# EAGLE library part RPIHEADER (library rpibout)
PIN HEADER
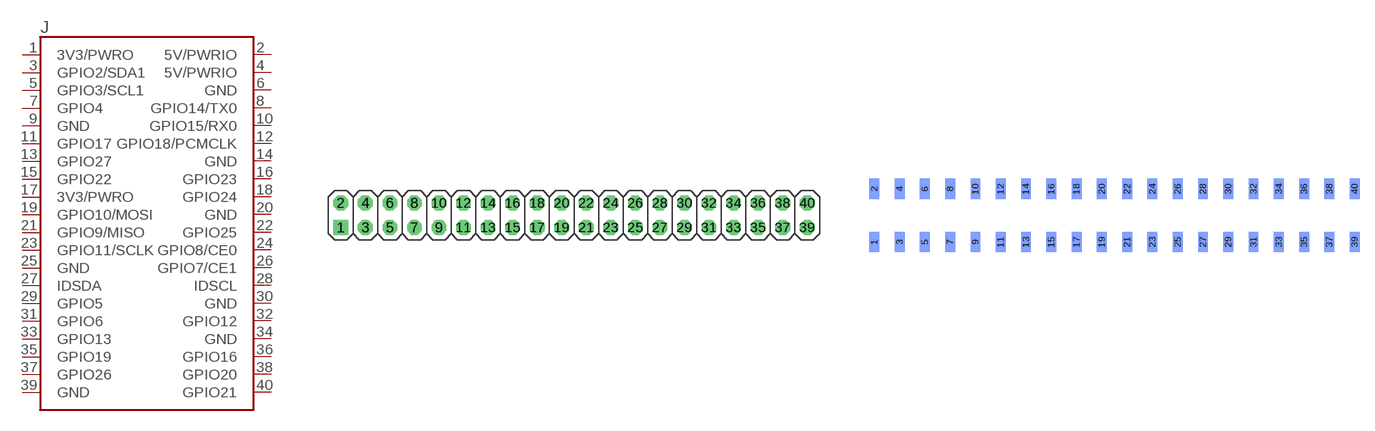
[diagram p6: symbol with the pads of RPI_THRUHOLE; footprints RPI_THRUHOLE, RPI_SMD]

Designator prefix J

## RPIHEADER_2.54  [RPI_THRUHOLE]
1  3V3/PWRO  pas
2  5V/PWRIO  pas
3  GPIO2/SDA1  pas
4  5V/PWRIO  pas
5  GPIO3/SCL1  pas
6  GND  pas
7  GPIO4  pas
8  GPIO14/TX0  pas
9  GND  pas
10  GPIO15/RX0  pas
11  GPIO17  pas
12  GPIO18/PCMCLK  pas
13  GPIO27  pas
14  GND  pas
15  GPIO22  pas
16  GPIO23  pas
17  3V3/PWRO  pas
18  GPIO24  pas
19  GPIO10/MOSI  pas
20  GND  pas
21  GPIO9/MISO  pas
22  GPIO25  pas
23  GPIO11/SCLK  pas
24  GPIO8/CE0  pas
25  GND  pas
26  GPIO7/CE1  pas
27  IDSDA  pas
28  IDSCL  pas
29  GPIO5  pas
30  GND  pas
31  GPIO6  pas
32  GPIO12  pas
33  GPIO13  pas
34  GND  pas
35  GPIO19  pas
36  GPIO16  pas
37  GPIO26  pas
38  GPIO20  pas
39  GND  pas
40  GPIO21  pas

## RPIHEADER_2.54-SMD  [RPI_SMD]
Pads as for RPI_THRUHOLE

## Footprint RPI_THRUHOLE (pad centres in mm)
PIN HEADER - 2.54
drill 1.016 square: 1 -24.13,-1.27
drill 1.016 octagon: 2 -24.13,1.27; 3 -21.59,-1.27; 4 -21.59,1.27; 5 -19.05,-1.27; 6 -19.05,1.27; 7 -16.51,-1.27; 8 -16.51,1.27; 9 -13.97,-1.27; 10 -13.97,1.27; 11 -11.43,-1.27; 12 -11.43,1.27; 13 -8.89,-1.27; 14 -8.89,1.27; 15 -6.35,-1.27; 16 -6.35,1.27; 17 -3.81,-1.27; 18 -3.81,1.27; 19 -1.27,-1.27; 20 -1.27,1.27; 21 1.27,-1.27; 22 1.27,1.27; 23 3.81,-1.27; 24 3.81,1.27; 25 6.35,-1.27; 26 6.35,1.27; 27 8.89,-1.27; 28 8.89,1.27; 29 11.43,-1.27; 30 11.43,1.27; 31 13.97,-1.27; 32 13.97,1.27; 33 16.51,-1.27; 34 16.51,1.27; 35 19.05,-1.27; 36 19.05,1.27; 37 21.59,-1.27; 38 21.59,1.27; 39 24.13,-1.27; 40 24.13,1.27

## Footprint RPI_SMD (pad centres in mm)
PIN HEADER - 2.54 SMD
smd 0.991 x 2.032 bottom: 1 -24.13,-2.667; 2 -24.13,2.667; 3 -21.59,-2.667; 4 -21.59,2.667; 5 -19.05,-2.667; 6 -19.05,2.667; 7 -16.51,-2.667; 8 -16.51,2.667; 9 -13.97,-2.667; 10 -13.97,2.667; 11 -11.43,-2.667; 12 -11.43,2.667; 13 -8.89,-2.667; 14 -8.89,2.667; 15 -6.35,-2.667; 16 -6.35,2.667; 17 -3.81,-2.667; 18 -3.81,2.667; 19 -1.27,-2.667; 20 -1.27,2.667; 21 1.27,-2.667; 22 1.27,2.667; 23 3.81,-2.667; 24 3.81,2.667; 25 6.35,-2.667; 26 6.35,2.667; 27 8.89,-2.667; 28 8.89,2.667; 29 11.43,-2.667; 30 11.43,2.667; 31 13.97,-2.667; 32 13.97,2.667; 33 16.51,-2.667; 34 16.51,2.667; 35 19.05,-2.667; 36 19.05,2.667; 37 21.59,-2.667; 38 21.59,2.667; 39 24.13,-2.667; 40 24.13,2.667